# Altium footprint library 7343[2917][D].PcbLib: 2 footprints
Each footprint in its own frame and in the unit in brackets; x right, y up, seen from the top. Pads: shape width x height; smd on the part's side, far side on the other; paste and mask are expansions set on the pad; w line width, h text height; cw(c..) or ccw(c..) is an arc to the next point about the centre after c.
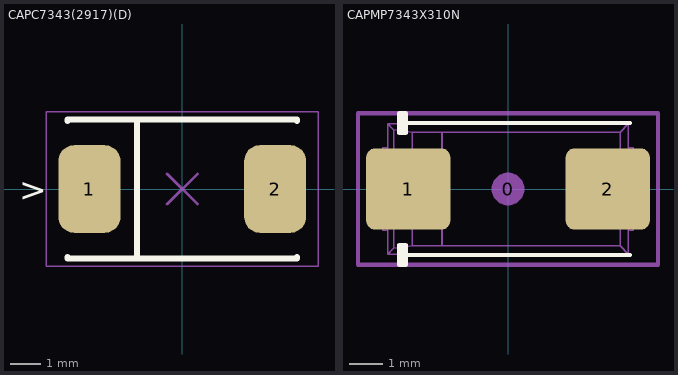
[diagram p0: the footprints below, top view; thin cyan lines are the x and y axes]

## CAPC7343(2917)(D) [mm] "Capacitor, SM Tantalum; Body 7.3 x 4.3 mm (LxW typ)"
height 3.1
pads (2):
  rrect50% 2.05x2.9 smd: 1(-3.075,0) 2(3.075,0)
Top Overlay:
  lines w0.2: -3.8,-2.25 -3.8,-2.3 3.8,-2.3 3.8,-2.25 ; -3.8,2.25 -3.8,2.3 3.8,2.3 3.8,2.25 ; -1.5,-2.3 -1.5,2.3
  text ">" at -5.407,-0.4 h0.8
Mechanical 15:
  lines w0.05: -4.5,-2.55 4.5,-2.55 4.5,2.55 -4.5,2.55 -4.5,-2.55
  lines w0.1: -0.5,-0.5 0.5,0.5 ; -0.5,0.5 0.5,-0.5
3D body "T55V157M010C0015.stp": height 2, standoff 0, extent -3.75,-2.3 3.75,2.3

## CAPMP7343X310N [mm] "Molded body capacitor, Body 7.3x4.3mm, 2917, IPC Nominal settings"
height 3.1
pads (3):
  round 1 on Mech15: 0(0,0)
  rrect20% 2.55x2.45 smd: 1(-3.025,0) 2(3.025,0)
Top Overlay:
  lines w0.127: -3.3,-2 3.7,-2 ; -3.3,2 3.7,2 ; -3.2,-2.3 -3.2,-2 -3.2,-1.7 ; -3.2,1.7 -3.2,2 -3.2,2.3 ; -3.3,-2.3 -3.3,-1.7 -3.1,-1.7 -3.1,-2 -3.1,-2.3 -3.3,-2.3 ; -3.3,1.7 -3.3,2.3 -3.1,2.3 -3.1,2 -3.1,1.7 -3.3,1.7
Mechanical 13:
  lines w0.05: -3.8,-0.5 -3.65,-0.5 ; -3.8,0.5 -3.65,0.5 ; -3.67,-0.5 -3.67,0.5 ; -3.65,-1.25 -3.8,-1.25 -3.8,1.25 -3.65,1.25 ; -2.901,-0.575 -2.901,0.575 ; 3.65,-1.25 3.8,-1.25 3.8,1.25 3.65,1.25 ; 3.65,-0.5 3.8,-0.5 ; 3.65,0.5 3.8,0.5 ; 3.67,-0.5 3.67,0.5 ; -3.65,-1.975 -3.65,1.975 ; -3.65,-1.975 -3.471,-1.796 ; -3.65,-1.975 3.65,-1.975 ; -3.65,1.975 3.65,1.975 ; -3.65,1.975 -3.471,1.796 ; -3.471,-1.796 -3.471,1.796 ; -3.471,-1.796 -2.907,-1.727 ; -3.471,1.796 -2.907,1.727 ; -2.907,-1.727 -2.907,-0.575 -2.001,-0.575 -2.001,-1.727 ; -2.907,-1.727 -2.001,-1.727 ; -2.907,1.727 -2.907,0.575 -2.001,0.575 -2.001,1.727 ; -2.907,1.727 -2.001,1.727 ; -2.001,-1.727 3.401,-1.726 ; -2.001,1.727 3.401,1.726 ; 3.401,-1.726 3.401,1.726 ; 3.401,-1.726 3.65,-1.975 ; 3.401,1.726 3.65,1.975 ; 3.65,-1.975 3.65,1.975
Mechanical 15:
  lines w0.127: -4.55,-2.3 -4.55,2.3 4.55,2.3 4.55,-2.3 -4.55,-2.3
3D body "CAPMP7343X310N.STEP": height 3.1, standoff 0, extent -3.8,-1.975 3.8,1.975